# Altium integrated library pca63100.IntLib: 83 symbols (part 1 of 2)
Pins are listed as number, name and electrical type; pins without a type are passive.

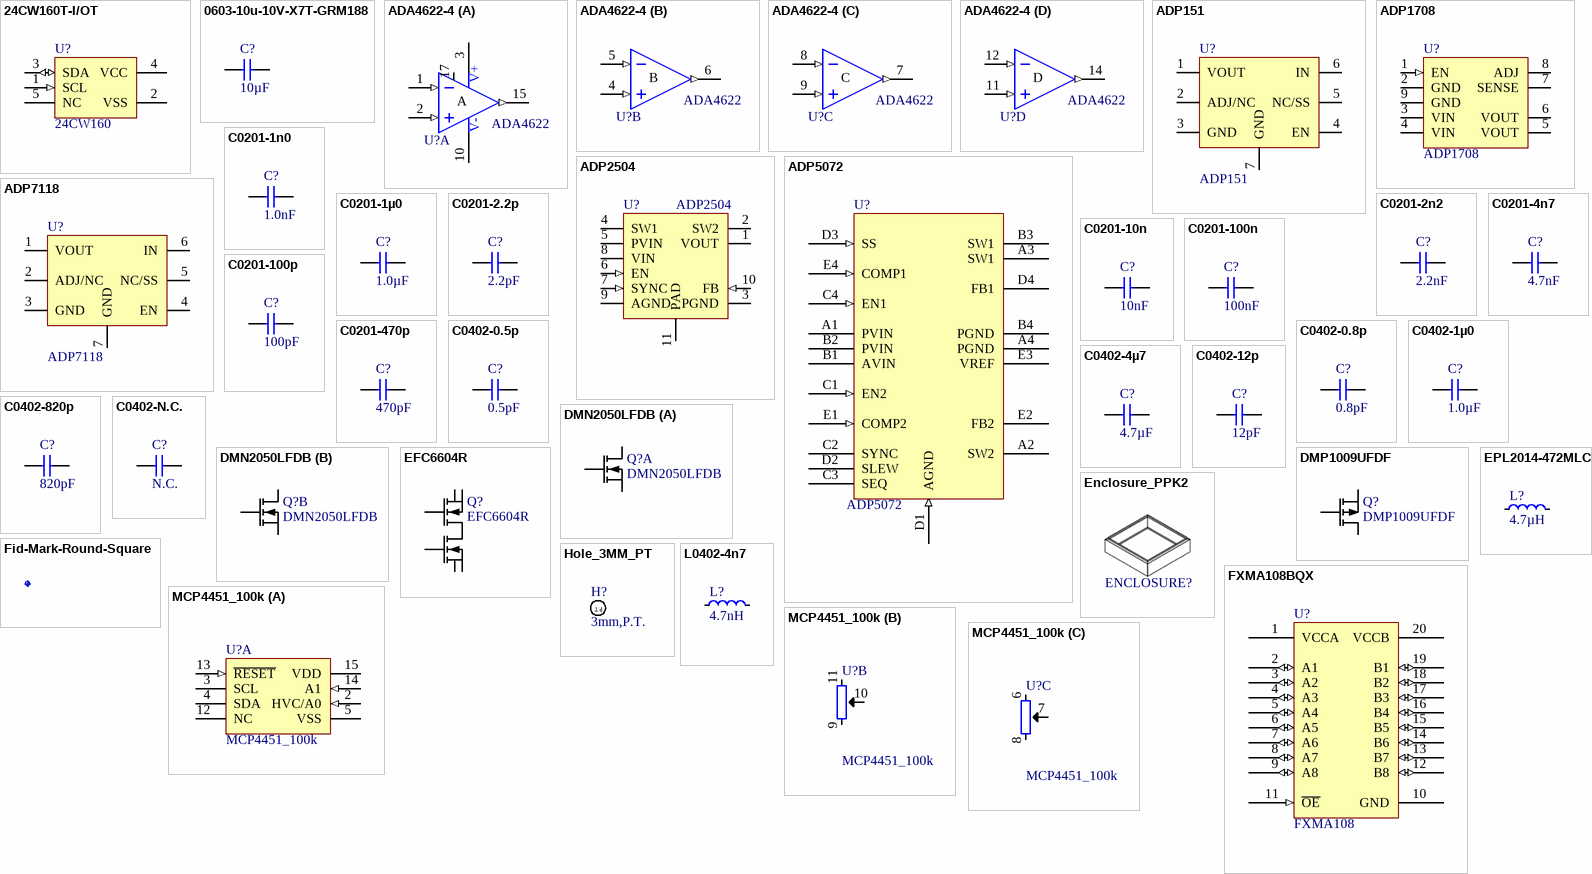
[diagram p0: symbols 24CW160T-I/OT to MCP4451_100k]

## 24CW160T-I/OT
designator U?, comment 24CW160
16 Kbit I2C Serial EEPROM with Software Write Protection, 1.6-5.5 V Supply; Part Number: 24CW160T-I/OT; Manufacturer: Microchip; Part number IPS: 00000004049; Artikkelnr Noca: N.A.; Pad Count: 5; Manufacturer Part Number: 24CW160T-I/OT; Footprint Doc: TSOT23-5; LatestRevisionDate: 2020-01-17; Pin Count: 5; Publisher: Nordic Semiconductor; Published: 2020-01-17; Value: 24CW160; ComponentLink1URL: http://ww1.microchip.com/downloads/en/DeviceDoc/24CW16X-24CW32X-24CW64X-24CW128X-Data-Sheet-20005772B.pdf; ComponentLink1Description: Datasheet; ComponentLink2URL: https://www.digikey.com/product-detail/en/microchip-technology/24CW160T-I-OT/24CW160T-I-OTCT-ND/8594982; ComponentLink2Description: Supplier link; HelpURL: https://www.microchip.com/wwwproducts/en/24CW160; Supplier 1: Digi-Key; Supplier 2: Mouser; Supplier Part Number 1: 24CW160T-I/OTCT-ND; Supplier Part Number 2: 579-24CW160T-I/OT; Component Class: Misc_ICs; PartId: 101900604
footprint SOT-23-5
pins: 1 SCL (in), 2 VSS (power), 3 SDA (io), 4 VCC (power), 5 NC

## 0603-10u-10V-X7T-GRM188
designator C?, comment 10µF
CAP CER 10UF 10V X7T 0603; Part Number: 0603-10u-10V-X7T-GRM188; Manufacturer: Murata; Manufacturer Part Number: GRM188D71A106MA73; Part number IPS: 00000004696; Note: 10VDC; Artikkelnr Noca: N.A; Pad Count: 2; ComponentLink1Description: Datasheet; ComponentLink2Description: Supplier link; HelpURL: https://no.mouser.com/datasheet/2/281/murata_03052018_GRM_Series_1-1310166.pdf; Footprint Doc: 0603; LatestRevisionDate: 2020-10-13; Pin Count: 2; Publisher: Nordic Semiconductor; Published: 2018-09-11; Value: 10µF; Supplier 1: Digi-Key; Supplier Part Number 1: 490-7200-1-ND; Supplier 2: Mouser; Supplier Part Number 2: 81-GRM188D71A106MA3D; Component Class: Capacitors; PartId: 100200414
footprint CAPC1608X06L
pins: 1, 2

## ADA4622-4
designator U?, comment ADA4622
J-FET Amplifier 4 Circuit Rail-to-Rail 16-LFCSP (4x4); Part Number: ADA4622-4; Manufacturer: Analog Devices; Manufacturer Part Number: ADA4622-4ACPZ-RL; Part number IPS: 00000004963; Artikkelnr Noca: N.A.; Pad Count: 17; ComponentLink1URL: https://www.analog.com/media/en/technical-documentation/data-sheets/ada4622-1-4622-2-4622-4.pdf; ComponentLink1Description: Datasheet; ComponentLink2URL: https://www.digikey.no/product-detail/en/analog-devices-inc/ADA4622-4ACPZ-RL/ADA4622-4ACPZ-RL-ND/6490586; ComponentLink2Description: Supplier link; HelpURL: https://www.analog.com/en/products/ada4622-4.html; Footprint Doc: QFN-16; LatestRevisionDate: 2019-06-19; Pin Count: 17; Publisher: Nordic Semiconductor; Published: 2019-06-19; Value: ADA4622; Supplier 1: Digi-Key; Supplier Part Number 1: ADA4622-4ACPZ-R7-ND; Supplier 2: Mouser; Supplier Part Number 2: 584-ADA4622-4ACPZ-R7; Component Class: Misc_ICs; PartId: 101900585
footprint QFN65P400X400X80_HS-17N
part A pins: 1 IN A- (in), 2 IN A+ (in), 3 VDD (power), 10 VSS (power), 13 NIC hidden, 15 OUTA (out), 16 NIC hidden, 17 EPAD (power) "Connect to VDD"
part B pins: 4 IN B+ (in), 5 IN B- (in), 6 OUTB (out)
part C pins: 7 OUTC (out), 8 IN C- (in), 9 IN C+ (in)
part D pins: 11 IN D+ (in), 12 IN D- (in), 14 OUTD (out)
part A text: V+; A; V-
part B text: B
part C text: C
part D text: D

## ADP151
designator U?
Ultralow Noise, 200 mA,CMOS Linear Regulator; Manufacturer: Analog Devices; Manufacturer Part Number: ADP151ACPZ-3.3-R7; Part number IPS: 00000004803; Artikkelnr Noca: N.A.; Pad Count: 7; Part Number: ADP151; ComponentLink1URL: https://www.analog.com/media/en/technical-documentation/data-sheets/ADP151.pdf; ComponentLink1Description: Datasheet; ComponentLink2URL: https://www.digikey.no/product-detail/no/analog-devices-inc/ADP7118ACPZN-R7/ADP7118ACPZN-R7TR-ND/5056887; ComponentLink2Description: Supplier link; HelpURL: https://www.analog.com/en/products/adp151.html; Footprint Doc: UDFN-6; LatestRevisionDate: 2020-02-21; Pin Count: 7; Publisher: Nordic Semiconductor; Published: 2020-02-21; Value: ADP151; Supplier 1: Digi-Key; Supplier Part Number 1: ADP151ACPZ-3.3-R7CT-ND; Supplier 2: Mouser; Supplier Part Number 2: 584-ADP151ACPZ3.3-R7; Component Class: Misc_ICs; PartId: 101900607
footprint SON65P200X60_HS-7N
pins: 1 VOUT (power), 2 ADJ/NC, 3 GND, 4 EN, 5 NC/SS, 6 IN (power), 7 GND (power)

## ADP1708
designator U?
LDO, Adjustable, 1 Output 1A, 8-LFCSP-WD (3x3); Manufacturer: Analog Devices; Manufacturer Part Number: ADP1708ACPZ-R7; Part number IPS: 00000004966; Artikkelnr Noca: N.A.; Pad Count: 9; Part Number: ADP1708; ComponentLink1URL: https://www.analog.com/media/en/technical-documentation/data-sheets/ADP1708.pdf; ComponentLink1Description: Datasheet; ComponentLink2URL: https://www.digikey.no/product-detail/no/analog-devices-inc/ADP1708ACPZ-R7/ADP1708ACPZ-R7CT-ND/2467500; ComponentLink2Description: Supplier link; HelpURL: https://www.analog.com/en/products/adp1708.html; Footprint Doc: UDFN-8; LatestRevisionDate: 2020-02-25; Pin Count: 9; Publisher: Nordic Semiconductor; Published: 2020-02-25; Value: ADP1708; Supplier 1: Digi-Key; Supplier Part Number 1: ADP1708ACPZ-R7CT-ND; Supplier 2: Mouser; Supplier Part Number 2: 584-ADP1708ACPZ-R7; Component Class: Misc_ICs; PartId: 101900609
footprint SON50P300X80_HS-9N
pins: 1 EN (in), 2 GND (power), 3 VIN (power), 4 VIN (power), 5 VOUT (power), 6 VOUT (power), 7 SENSE, 8 ADJ, 9 GND (power)

## ADP2504
designator U?
Buck-Boost Switching Regulator IC Positive Adjustable 2.8V 1 Output 1A; Manufacturer: Analog Devices; Manufacturer Part Number: ADP2504ACPZ-R7; Part number IPS: 00000004965; Artikkelnr Noca: N.A.; Pad Count: 10; Part Number: ADP2504; ComponentLink1URL: https://www.analog.com/media/en/technical-documentation/data-sheets/ADP2503_2504.pdf; ComponentLink1Description: Datasheet; ComponentLink2URL: https://www.digikey.com/product-detail/en/analog-devices-inc/ADP2504ACPZ-R7/ADP2504ACPZ-R7CT-ND/2237823; ComponentLink2Description: Supplier link; HelpURL: https://www.analog.com/en/products/adp2504.html; Footprint Doc: LFCSP-10; LatestRevisionDate: 2019-09-25; Pin Count: 10; Publisher: Nordic Semiconductor; Published: 2019-09-25; Value: ADP2504; Supplier 1: Digi-Key; Supplier Part Number 1: ADP2504ACPZ-R7CT-ND; Supplier 2: Mouser; Supplier Part Number 2: 584-ADP2504ACPZ-R7; Component Class: Misc_ICs; PartId: 101900590
footprint SON50P300X80-HS-11N
pins: 1 VOUT (power), 2 SW2 (power), 3 PGND (power), 4 SW1 (power), 5 PVIN (power), 6 EN (in), 7 SYNC (in), 8 VIN (power), 9 AGND (power), 10 FB (in), 11 PAD (power)

## ADP5072
designator U?
Boost Switching Regulator IC Positive and Negative (Dual Rail) Adjustable 0.8V 2 Output 600mA, 1A 20-UFBGA,; Manufacturer: Analog Devices; Manufacturer Part Number: ADP5072ACBZ-R7; Part number IPS: 00000004804; Artikkelnr Noca: N.A.; Pad Count: 20; Part Number: ADP5072; ComponentLink1URL: https://www.analog.com/media/en/technical-documentation/data-sheets/ADP5072.pdf; ComponentLink1Description: Datasheet; ComponentLink2URL: https://www.digikey.no/product-detail/en/analog-devices-inc/ADP5072ACBZ-R7/ADP5072ACBZ-R7-ND/9990324; ComponentLink2Description: Supplier link; HelpURL: https://www.analog.com/en/products/adp5072.html; Footprint Doc: BGA-20; LatestRevisionDate: 2019-06-20; Pin Count: 20; Publisher: Nordic Semiconductor; Published: 2019-06-20; Value: ADP5072; Supplier 1: Digi-Key; Supplier Part Number 1: ADP5072ACBZ-R7-ND; Supplier 2: Mouser; Supplier Part Number 2: 584-ADP5072ACBZ-R7; Component Class: Misc_ICs; PartId: 101900586
footprint BGA20C40P4X5_161X218X56
pins: A1 PVIN (power), A2 SW2 (power), A3 SW1 (power), A4 PGND (power), B1 AVIN (power), B2 PVIN (power), B3 SW1 (power), B4 PGND (power), C1 EN2 (in), C2 SYNC, C3 SEQ, C4 EN1 (in), D1 AGND (in), D2 SLEW, D3 SS (in), D4 FB1 (power), E1 COMP2 (in), E2 FB2 (power), E3 VREF (power), E4 COMP1 (in)

## ADP7118
designator U?
20 V, 200 mA, Low Noise,CMOS LDO Linear Regulator; Manufacturer: Analog Devices; Manufacturer Part Number: ADP7118ACPZN-R7; Part number IPS: 00000004964; Artikkelnr Noca: N.A.; Pad Count: 7; Part Number: ADP7118; ComponentLink1URL: https://www.analog.com/media/en/technical-documentation/data-sheets/ADP7118.pdf; ComponentLink1Description: Datasheet; ComponentLink2URL: https://www.digikey.no/product-detail/no/analog-devices-inc/ADP151ACPZ-3.3-R7/ADP151ACPZ-3.3-R7CT-ND/7430437; ComponentLink2Description: Supplier link; HelpURL: https://www.analog.com/en/products/adp7118.html; Footprint Doc: UDFN-6; LatestRevisionDate: 2020-02-21; Pin Count: 7; Publisher: Nordic Semiconductor; Published: 2020-02-21; Value: ADP7118; Supplier 1: Digi-Key; Supplier Part Number 1: ADP7118ACPZN-R7TR-ND; Supplier 2: Mouser; Supplier Part Number 2: 584-ADP7118ACPZN-R7; Component Class: Misc_ICs; PartId: 101900608
footprint SON65P200X60_HS-7N
pins: 1 VOUT (power), 2 ADJ/NC, 3 GND, 4 EN, 5 NC/SS, 6 IN (power), 7 GND (power)

## C0201-1n0
designator C?, comment 1.0nF
Capacitor, X7R, ±10%; Part Number: C0201-1n0; Part number IPS: 00000003206; Note: 16V; Artikkelnr Noca: N.A.; Pad Count: 2; ComponentLink1Description: Datasheet; ComponentLink2Description: Supplier link; Footprint Doc: 0201; LatestRevisionDate: 2020-10-13; Pin Count: 2; Publisher: Nordic Semiconductor; Published: 2014-11-13; Value: 1.0nF; Component Class: Capacitors; PartId: 100200056
footprint CAPC0603X03L_C
pins: 1, 2

## C0201-1µ0
designator C?, comment 1.0µF
Capacitor, X5R, ±10%; Part Number: C0201-1µ0; Part number IPS: 00000001723; Note: 10V; Artikkelnr Noca: N.A.; Pad Count: 2; ComponentLink1Description: Datasheet; ComponentLink2Description: Supplier link; Footprint Doc: 0201; LatestRevisionDate: 2016-08-22; Pin Count: 2; Publisher: Nordic Semiconductor; Published: 2009-05-08; Value: 1.0µF; Supplier 1: Digi-Key; Supplier Part Number 1: 1276-6795-1-ND; Component Class: Capacitors; PartId: 100200084
footprint CAPC0603X03L_C
pins: 1, 2

## C0201-2.2p
designator C?, comment 2.2pF
Chip Cap 0201; Part Number: C0201-2.2p; Note: Chip Cap 1%; Artikkelnr Noca: N.A.; Pad Count: 2; ComponentLink1Description: Datasheet; ComponentLink2Description: Supplier link; Footprint Doc: 0201; LatestRevisionDate: 2014-11-13; Pin Count: 2; Publisher: Nordic Semiconductor; Published: 2014-11-13; Value: 2.2pF; Part number IPS: N.A.; Component Class: Capacitors; PartId: 100200020
footprint CAPC0603X03L_C
pins: 1, 2

## C0201-2n2
designator C?, comment 2.2nF
Capacitor, X7R, ±10%, 10V; Part Number: C0201-2n2; Part number IPS: 00000001778; Artikkelnr Noca: N.A.; Pad Count: 2; ComponentLink1Description: Datasheet; ComponentLink2Description: Supplier link; Footprint Doc: 0201; LatestRevisionDate: 2014-11-13; Pin Count: 2; Publisher: Nordic Semiconductor; Published: 2014-11-13; Value: 2.2nF; Note: 10V; Component Class: Capacitors; PartId: 100200060
footprint CAPC0603X03L_C
pins: 1, 2

## C0201-4n7
designator C?, comment 4.7nF
Chip Cap 0201; Part Number: C0201-4n7; Part number IPS: 00000001243; Note: Chip Cap 1%; Artikkelnr Noca: N.A.; Pad Count: 2; LatestRevisionDate: 2020-10-13; Pin Count: 2; Publisher: Nordic Semiconductor; Published: 2014-11-13; Value: 4.7nF; Footprint Doc: 0201; ComponentLink1Description: Datasheet; ComponentLink2Description: Supplier link; Component Class: Capacitors; PartId: 100200063
footprint CAPC0603X03L_C
pins: 1, 2

## C0201-10n
designator C?, comment 10nF
Capacitor, X7R, ±10%; Part Number: C0201-10n; Part number IPS: 00000003480; Note: 10V; Artikkelnr Noca: N.A.; Pad Count: 2; LatestRevisionDate: 2017-11-09; Pin Count: 2; Publisher: Nordic Semiconductor; Published: 2014-11-13; Value: 10nF; Footprint Doc: 0201; ComponentLink1Description: Datasheet; ComponentLink2Description: Supplier link; Component Class: Capacitors; PartId: 100200067
footprint CAPC0603X03L_C
pins: 1, 2

## C0201-100n
designator C?, comment 100nF
Capacitor, X5R, ±10%; Part Number: C0201-100n; Part number IPS: 00000001248, 00000002505; Note: 16V; Artikkelnr Noca: N.A.; Pad Count: 2; Footprint Doc: 0201; LatestRevisionDate: 2017-11-09; Pin Count: 2; Publisher: Nordic Semiconductor; Published: 2014-11-13; Value: 100nF; ComponentLink1Description: Datasheet; ComponentLink2Description: Supplier link; Component Class: Capacitors; PartId: 100200078
footprint CAPC0603X03L_C
pins: 1, 2

## C0201-100p
designator C?, comment 100pF
Capacitor, NP0, ±2%, 25V; Part Number: C0201-100p; Manufacturer: Murata; Manufacturer Part Number: GRM0335C1E101GA01; Part number IPS: 00000007853; Artikkelnr Noca: N.A.; Pad Count: 2; LatestRevisionDate: 2019-04-16; Pin Count: 2; Publisher: Nordic Semiconductor; Published: 2019-04-16; Value: 100pF; Note: 25V; Footprint Doc: 0201; ComponentLink1Description: Datasheet; ComponentLink2Description: Supplier link; Component Class: Capacitors; PartId: 100200044
footprint CAPC0603X03L_C
pins: 1, 2

## C0201-470p
designator C?, comment 470pF
Chip Cap 0201; Part Number: C0201-470p; Part number IPS: 00000005775; Note: Chip Cap 1%; Artikkelnr Noca: N.A.; Pad Count: 2; ComponentLink1Description: Datasheet; ComponentLink2Description: Supplier link; Footprint Doc: 0201; LatestRevisionDate: 2020-10-13; Pin Count: 2; Publisher: Nordic Semiconductor; Published: 2014-11-13; Value: 470pF; Component Class: Capacitors; PartId: 100200052
footprint CAPC0603X03L_C
pins: 1, 2

## C0402-0.5p
designator C?, comment 0.5pF
Capacitor, NP0, ±0.05pF; Part Number: C0402-0.5p; Manufacturer: Murata; Manufacturer Part Number: GJM1555C1HR50WB01; Part number IPS: 00000004293; Note: 50V; Artikkelnr Noca: 20020007; Pad Count: 2; LatestRevisionDate: 2020-10-13; Pin Count: 2; Publisher: Nordic Semiconductor; Published: 2009-05-08; Value: 0.5pF; Footprint Doc: 0402; ComponentLink1Description: Datasheet; ComponentLink2Description: Supplier link; Supplier 1: Digi-Key; Supplier Part Number 1: 490-11250-1-ND; Component Class: Capacitors; PartId: 100200112
footprint CAPC1005X04L
pins: 1, 2

## C0402-0.8p
designator C?, comment 0.8pF
Capacitor, NP0, ±5%; Part Number: C0402-0.8p; Manufacturer: Murata; Manufacturer Part Number: GRM1555C1HR80WA01D; Part number IPS: 00000007782; Note: 50V; Artikkelnr Noca: 20029147; Pad Count: 2; LatestRevisionDate: 2012-11-21; Pin Count: 2; Publisher: Nordic Semiconductor; Published: 2009-05-08; Value: 0.8pF; Footprint Doc: 0402; ComponentLink1Description: Datasheet; ComponentLink1URL: https://www.murata.com/~/media/webrenewal/support/library/catalog/products/capacitor/mlcc/c02e.ashx?la=en-us; ComponentLink2Description: Supplier link; Supplier 1: Digi-Key; Supplier Part Number 1: 490-6270-1-ND; Component Class: Capacitors; PartId: 100200116
footprint CAPC1005X04L
pins: 1, 2

## C0402-1µ0
designator C?, comment 1.0µF
Capacitor, X5R, ±5%, 6.3V; Part Number: C0402-1µ0; Part number IPS: 00000007786, 00000003457; Artikkelnr Noca: 20039235; Pad Count: 2; ComponentLink1Description: Datasheet; ComponentLink2Description: Supplier link; Footprint Doc: 0402; LatestRevisionDate: 2016-08-22; Pin Count: 2; Publisher: Nordic Semiconductor; Published: 2009-05-08; Value: 1.0µF; Note: 6.3V; Supplier 1: Digi-Key; Supplier Part Number 1: 1276-1444-1-ND; Component Class: Capacitors; PartId: 100200190
footprint CAPC1005X04L
pins: 1, 2

## C0402-4µ7
designator C?, comment 4.7µF
Capacitor, X5R, ±20%; Part Number: C0402-4µ7; Part number IPS: 00000001251, 00000007165; Note: 10V; Artikkelnr Noca: 20039482; Pad Count: 2; LatestRevisionDate: 2017-11-09; Pin Count: 2; Publisher: Nordic Semiconductor; Published: 2009-05-08; Value: 4.7µF; Footprint Doc: 0402; ComponentLink1Description: Datasheet; ComponentLink2Description: Supplier link; Supplier 1: Digi-Key; Supplier Part Number 1: 490-13252-1-ND; Component Class: Capacitors; PartId: 100200193
footprint CAPC1005X04L
pins: 1, 2

## C0402-12p
designator C?, comment 12pF
Capacitor, NP0, ±2%; Part Number: C0402-12p; Part number IPS: 00000002398; Note: 50V; Artikkelnr Noca: 20029159; Pad Count: 2; LatestRevisionDate: 2011-05-11; Pin Count: 2; Publisher: Nordic Semiconductor; Published: 2009-05-08; Value: 12pF; Footprint Doc: 0402; ComponentLink1Description: Datasheet; ComponentLink2Description: Supplier link; Component Class: Capacitors; PartId: 100200137
footprint CAPC1005X04L
pins: 1, 2

## C0402-820p
designator C?, comment 820pF
Capacitor, NP0, ±5%; Part Number: C0402-820p; Part number IPS: 00000004365; Note: 50V; Artikkelnr Noca: 20029219; Pad Count: 2; LatestRevisionDate: 2020-10-13; Pin Count: 2; Publisher: Nordic Semiconductor; Published: 2009-05-08; Value: 820pF; Footprint Doc: 0402; ComponentLink1Description: Datasheet; ComponentLink2Description: Supplier link; Component Class: Capacitors; PartId: 100200161
footprint CAPC1005X04L
pins: 1, 2

## C0402-N.C.
designator C?, comment N.C.
Not mounted; Part Number: C0402-N.C.; Note: Chip Cap; Artikkelnr Noca: N.A.; Assembly: Not mounted; Pad Count: 2; Footprint Doc: 0402; LatestRevisionDate: 2009-05-08; Pin Count: 2; Publisher: Nordic Semiconductor; Published: 2009-05-08; Value: N.C.; ComponentLink1Description: Datasheet; ComponentLink2Description: Supplier link; Part number IPS: N.A.; Component Class: Capacitors; PartId: 100200105
footprint CAPC1005X04L_NC
pins: 1, 2

## DMN2050LFDB
designator Q?
Dual N Ch MOFET, 3.3A, 45mOhm @ 5A, 4.5V, 730mW; Manufacturer: Diodes Incorporated; Manufacturer Part Number: DMN2050LFDB-7; Part number IPS: 00000004782; Artikkelnr Noca: N.A.; Pad Count: 6; Part Number: DMN2050LFDB; ComponentLink1URL: https://www.diodes.com/assets/Datasheets/DMN2050LFDB.pdf; ComponentLink1Description: Datasheet; ComponentLink2Description: Supplier link; HelpURL: https://www.diodes.com/assets/Datasheets/DMN2050LFDB.pdf; Footprint Doc: DFN-6; LatestRevisionDate: 2020-04-30; Pin Count: 6; Publisher: Nordic Semiconductor; Published: 2020-04-30; Value: DMN2050LFDB; Supplier 1: Digi-Key; Supplier Part Number 1: DMN2050LFDB-7DICT-ND; Supplier 2: Mouser; Supplier Part Number 2: 621-DMN2050LFDB-7; Component Class: Semiconductors; PartId: 101300176
footprint DFN65P200X60_HS-6N
part A pins: 1 S1, 2 G1, 6 D1
part B pins: 3 D2, 4 S2, 5 G2

## DMP1009UFDF
designator Q?
P Ch MOFET, 11A, 30mOhm max, 2W; Manufacturer: Diodes Incorporated; Part number IPS: 00000004784; Artikkelnr Noca: N.A.; Pad Count: 6; Part Number: DMP1009UFDF; Manufacturer Part Number: DMP1009UFDF; ComponentLink1URL: https://www.diodes.com/assets/Datasheets/DMP1009UFDF.pdf; ComponentLink1Description: Datasheet; ComponentLink2Description: Supplier link; Footprint Doc: UDFN-6; LatestRevisionDate: 2019-02-12; Pin Count: 6; Publisher: Nordic Semiconductor; Published: 2019-02-12; Value: DMP1009UFDF; Supplier 1: Digi-Key; Supplier Part Number 1: DMP1009UFDF-7DICT-ND; Component Class: Semiconductors; PartId: 101300164
footprint UDFN65P200X200X60_HS-6N
pins: 1 G, 2 S, 3 D

## EFC6604R
designator Q?
Dual MOSFET, Dual N Channel, 13 A, 12 V, 0.009 ohm, 4.5 V, 2.5 V; Manufacturer: ON Semiconductor; Manufacturer Part Number: EFC6604R-TR; Part number IPS: 00000004783; Artikkelnr Noca: N.A.; Pad Count: 6; Part Number: EFC6604R; ComponentLink1URL: https://www.onsemi.com/pub/Collateral/EFC6604R-D.PDF; ComponentLink1Description: Datasheet; ComponentLink2URL: https://www.digikey.no/products/en/discrete-semiconductor-products/transistors-fets-mosfets-arrays/289?k=EFC6604; ComponentLink2Description: Supplier link; HelpURL: https://www.onsemi.com/products/discretes-drivers/mosfets/efc6604r; Footprint Doc: WLCSP-6; LatestRevisionDate: 2019-10-01; Pin Count: 6; Publisher: Nordic Semiconductor; Published: 2019-10-01; Value: EFC6604R; Supplier 1: Mouser; Supplier Part Number 1: 863-EFC6604R-TR; Supplier 2: Digi-Key; Supplier Part Number 2: EFC6604R-TR-ND; Component Class: Semiconductors; PartId: 101300168
footprint BGA6C65P2X3_146X191X22
pins: 1 S1, 2 G1, 3 S2, 4 S2, 5 G2, 6 S2

## Enclosure_PPK2
designator ENCLOSURE?, comment Plastic Enclosure  (value not drawn)
PPK2 Moulded plastic casing; Part Number: Enclosure_PPK2; Manufacturer: Proto Labs, Inc.; Manufacturer Part Number: PPK plexi rev 1.2; Part number IPS: 4971; Pad Count: 0; ComponentLink1Description: Datasheet; ComponentLink2Description: Supplier link; HelpURL: https://www.protolabs.com; Footprint Doc: Plastic casing; LatestRevisionDate: 2020-10-01; Publisher: Nordic Semiconductor; Published: 2020-10-01; Value: Plastic Enclosure; Component Class: Mechanical; PartId: 101200001
footprint Enclosure_PPK2

## EPL2014-472MLC
designator L?, comment 4.7µH
Shielded Power Inductor EPL2014 Low DCR Ind 4.7 uH 20 % 650mA; Part Number: EPL2014-472MLC; Manufacturer: Coilcraft; Part number IPS: 00000004697; Artikkelnr Noca: N.A.; Pad Count: 2; Manufacturer Part Number: EPL2014-472MLC; ComponentLink1Description: Datasheet; ComponentLink2Description: Supplier link; HelpURL: https://no.mouser.com/datasheet/2/597/epl2014-270728.pdf; Footprint Doc: IND_EPL2014; LatestRevisionDate: 2020-01-07; Pin Count: 2; Publisher: Nordic Semiconductor; Published: 2019-06-21; Value: 4.7µH; Supplier 1: Mouser; Supplier Part Number 1: 994-EPL2014-472MLB; Component Class: Inductors; PartId: 100300390
footprint IND_EPL2014
pins: 1, 2

## Fid-Mark-Round-Square
designator Fid?, comment Fiducial mark  (value not drawn)  (no BOM)
Part Number: Fid-Mark-Round-Square; Artikkelnr Noca: N.A.; Pad Count: 1; LatestRevisionDate: 2017-01-30; Pin Count: 1; Publisher: Nordic Semiconductor; Published: 2009-12-12; Footprint Doc: Fiducial; Part number IPS: N.A.; ComponentLink1Description: Datasheet; ComponentLink2Description: Supplier link; Component Class: Connectors; PartId: 100500075
footprint Fiducial_Round-Square

## FXMA108BQX
designator U?, comment FXMA108
8-bit bidirectional voltage-level translator with auto-direction sensing; Part Number: FXMA108BQX; Manufacturer: Fairchild Semiconductor; Part number IPS: 00000004806; Note: Translator, Bidirectional; Artikkelnr Noca: N.A.; Pad Count: 20; Manufacturer Part Number: FXMA108BQX; ComponentLink1Description: Datasheet; ComponentLink2Description: Supplier link; HelpURL: http://www.fairchildsemi.com/ds/FX/FXMA108.pdf; Footprint Doc: DQFN-20; LatestRevisionDate: 2014-01-10; Pin Count: 20; Publisher: Nordic Semiconductor; Published: 2014-01-10; Value: FXMA108; Supplier 1: Digi-Key; Supplier Part Number 1: FXMA108BQXFSCT-ND; Supplier 2: Mouser; Supplier Part Number 2: 512-FXMA108BQX; Component Class: Misc_ICs; PartId: 101900233
footprint QFN50P450X250X80_HS-21N
pins: 1 VCCA (power), 2 A1 (io), 3 A2 (io), 4 A3 (io), 5 A4 (io), 6 A5 (io), 7 A6 (io), 8 A7 (io), 9 A8 (io), 10 GND (power), 11 ~{OE} (in), 12 B8 (io), 13 B7 (io), 14 B6 (io), 15 B5 (io), 16 B4 (io), 17 B3 (io), 18 B2 (io), 19 B1 (io), 20 VCCB (power)

## Hole_3MM_PT
designator H?, comment 3mm,P.T.  (no BOM)
Regular Plate Through, 3mm hole; Part Number: Hole_3MM_PT; Manufacturer: Nordic Semiconductor; Artikkelnr Noca: N.A.; Pad Count: 1; Footprint Doc: Hole_3MM_PT; LatestRevisionDate: 2013-05-29; Pin Count: 1; Publisher: Nordic Semiconductor; Published: 2013-05-29; Value: 3mm,P.T.; Note: Regular Plate Through, 3mm hole; Part number IPS: N.A.; ComponentLink1Description: Datasheet; ComponentLink2Description: Supplier link; Component Class: Connectors; PartId: 100500146
footprint HOLE_PT_3MM
pins: 1
text: P.T

## L0402-4n7
designator L?, comment 4.7nH
Inductor, 160mA, ±0.1nH; Part Number: L0402-4n7; Manufacturer: Murata; Manufacturer Part Number: LQP15MN4N7B02D; Part number IPS: 00000004366; Note: High frequency chip inductor ±5%; Artikkelnr Noca: 33029164; Pad Count: 2; LatestRevisionDate: 2012-09-19; Pin Count: 2; Publisher: Nordic Semiconductor; Published: 2009-05-08; Value: 4.7nH; Footprint Doc: 0402; ComponentLink1Description: Datasheet; ComponentLink2Description: Supplier link; HelpURL: http://search.murata.co.jp/Ceramy/image/img/PDF/ENG/L0075S0084LQP15M.pdf; Supplier 1: Digi-Key; Supplier Part Number 1: 490-1132-1-ND; Component Class: Inductors; PartId: 100300050
footprint INDC1005X04L
pins: 1, 2

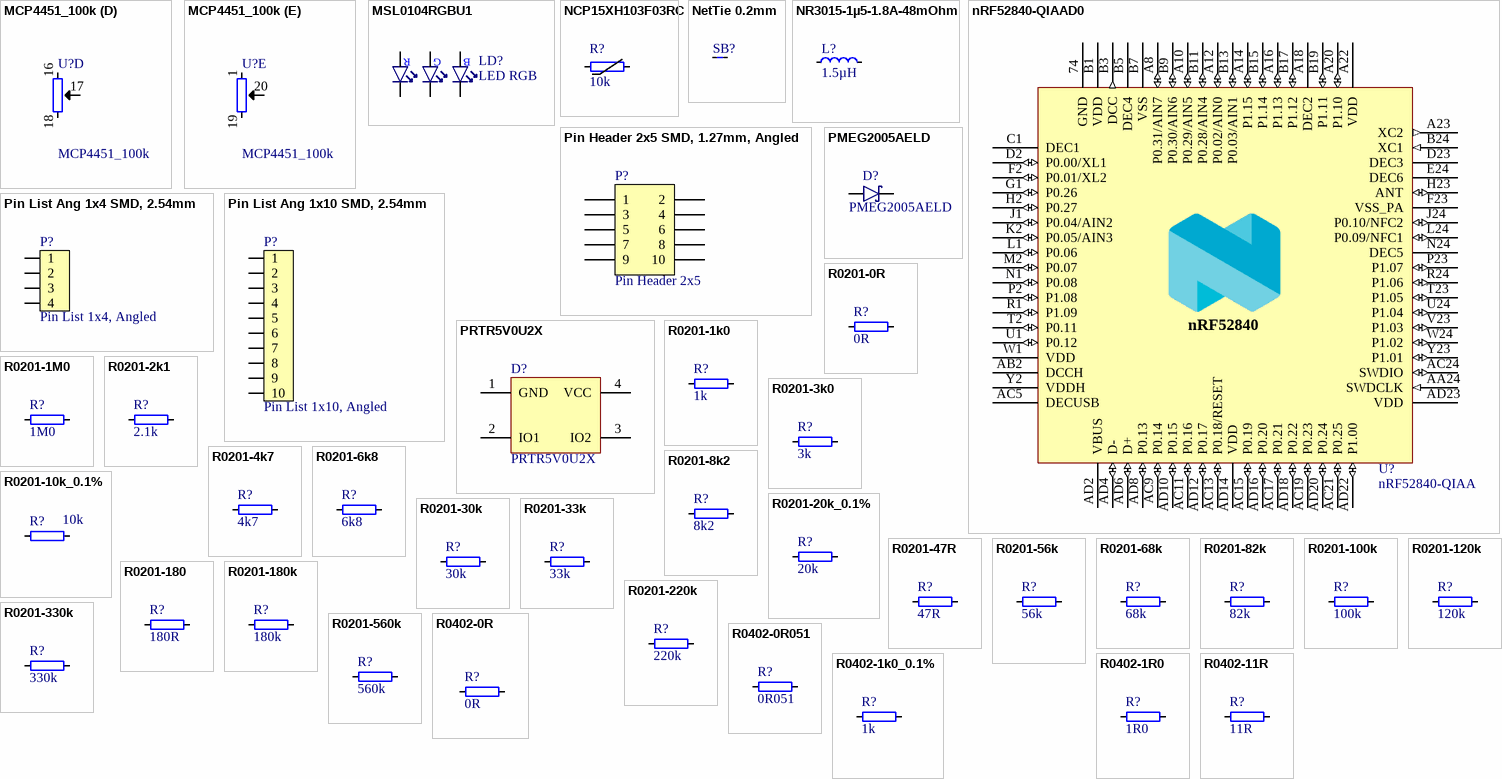
[diagram p1: symbols MCP4451_100k to R0402-11R]

## MCP4451_100k
designator U?
Quad Digital Potentiometer, 100k, 257 taps, I2C interface, Volatile Memory, 1.8-5.5V; Manufacturer: Microchip Technology; Manufacturer Part Number: MCP4451-104E/ML; Part number IPS: 00000004805; Artikkelnr Noca: 15070064; Pad Count: 20; Part Number: MCP4451_100k; Footprint Doc: QFN-20; LatestRevisionDate: 2016-06-02; Pin Count: 20; Publisher: Nordic Semiconductor; Published: 2016-05-09; Value: MCP4451_100k; ComponentLink1Description: Datasheet; ComponentLink2Description: Supplier link; HelpURL: http://ww1.microchip.com/downloads/en/DeviceDoc/MCP4451.pdf; Supplier 1: Digi-Key; Supplier 2: Mouser; Supplier Part Number 1: MCP4451-104E/ML-ND; Supplier Part Number 2: 579-MCP4451-104E/ML; Component Class: Misc_ICs; PartId: 101900403
footprint QFN50P400X400X80_HS-21N
part A pins: 2 HVC/A0 (in), 3 SCL, 4 SDA, 5 VSS (power), 12 NC, 13 ~{RESET} (in), 14 A1 (in), 15 VDD (power) "VDD 1.65V - 5.5V", 21 VSS (power) hidden to GND
part B pins: 9 P0A, 10 P0W (power), 11 P0B
part C pins: 6 P1B, 7 P1W (power), 8 P1A
part D pins: 16 P2B, 17 P2W (power), 18 P2A
part E pins: 1 P3B, 19 P3A, 20 P3W (power)

## MSL0104RGBU1
designator LD?, comment LED RGB
High brightness, side view RGB LED; Part Number: MSL0104RGBU1; Manufacturer: ROHM; Part number IPS: 00000007799; Artikkelnr Noca: N.A.; Pad Count: 7; Manufacturer Part Number: MSL0104RGBU1; LatestRevisionDate: 2016-09-21; Pin Count: 7; Publisher: Nordic Semiconductor; Published: 2016-09-21; Value: LED RGB; Footprint Doc: 6922; Supplier 1: Digi-Key; Supplier Part Number 1: MSL0104RGBU1CT-ND; Supplier 2: Mouser; Supplier Part Number 2: 755-MSL0104RGBU1; ComponentLink1Description: Datasheet; ComponentLink2Description: Supplier link; HelpURL: http://www.rohm.com/web/eu/datasheet/MSL0104RGBU; Component Class: Optoelectronics; PartId: 101400028
footprint MSL0104
pins: 1 A_RED, 2 A_GREEN, 3 C_GREEN, 4 C_RED, 5 C_BLUE, 6 A_BLUE
text: R; G; B

## NCP15XH103F03RC
designator R?, comment 10k
THERMISTOR 10K OHM NTC 0402 SMD; Part Number: NCP15XH103F03RC; Manufacturer: Murata; Part number IPS: 00000007808; Note: Chip Res 1%; Artikkelnr Noca: N.A.; Pad Count: 2; Manufacturer Part Number: NCP15XH103F03RC; ComponentLink1Description: Datasheet; ComponentLink2Description: Supplier link; Footprint Doc: 0402; LatestRevisionDate: 2015-03-25; Pin Count: 2; Publisher: Nordic Semiconductor; Published: 2015-03-25; Value: 10k; Supplier 1: Digi-Key; Supplier Part Number 1: 490-4801-1-ND; Supplier 2: Farnell; Supplier Part Number 2: 245-6121; Component Class: Resistors; PartId: 100100507
footprint RESC1005X04L
pins: 1, 2

## NetTie 0.2mm
designator SB?, comment NetTie_200um  (value not drawn)  (net tie, no BOM)
Net Tie; Part Number: NetTie 0.2mm; Artikkelnr Noca: N.A.; Pad Count: 2; ComponentLink1Description: Datasheet; ComponentLink2Description: Supplier link; Footprint Doc: NetTie; LatestRevisionDate: 2019-10-07; Pin Count: 2; Publisher: Nordic Semiconductor; Published: 2019-10-07; Value: NetTie_200um; Part number IPS: N.A.; Component Class: Connectors; PartId: 100500654
footprint NetTie_200um
pins: 1, 2

## NR3015-1µ5-1.8A-48mOhm
designator L?, comment 1.5µH
Ferrite Inductor, Shielded, 1,8A, 48mOhm; Part Number: NR3015-1µ5-1.8A-48mOhm; Manufacturer: Taiyo Yuden; Manufacturer Part Number: NR3015T1R5N; Part number IPS: 00000004698; Artikkelnr Noca: N.A.; Pad Count: 2; ComponentLink1Description: Datasheet; ComponentLink2Description: Supplier link; HelpURL: https://ds.yuden.co.jp/TYCOMPAS/ut/specSheet?pn=NR3015T1R5N; Footprint Doc: 1212; LatestRevisionDate: 2019-10-01; Pin Count: 2; Publisher: Nordic Semiconductor; Published: 2019-10-01; Value: 1.5µH; Supplier 1: Digi-Key; Supplier Part Number 1: 587-2617-1-ND; Supplier 2: Farnell; Supplier Part Number 2: 208-4899; Component Class: Inductors; PartId: 100300391
footprint TY-NR3015
pins: 1, 2

## nRF52840-QIAAD0
designator U?, comment nRF52840-QIAA
Multi-protocol Bluetooth Low Energy, IEEE 802.15.4, ANT and 2.4GHz proprietary system-on-chip; Part Number: nRF52840-QIAAD0; Manufacturer: Nordic Semiconductor; Part number IPS: 80000001648; Artikkelnr Noca: N.A.; Pad Count: 73; LatestRevisionDate: 2018-12-04; Pin Count: 73; Publisher: Nordic Semiconductor; Published: 2018-12-04; Value: nRF52840-QIAA; Footprint Doc: AQFN-73; Manufacturer Part Number: nRF52840-QIAAD0; ComponentLink1Description: Datasheet; ComponentLink2Description: Supplier link; Supplier 1: Nordic Semiconductor; Supplier Part Number 1: nRF52840-QIAAD0; Component Class: nRF_Devices; PartId: 102000149
footprint AQFN50P700X700X85_HS-74N
pins: 74 GND (power), A8 P0.31/AIN7 (io), A10 P0.29/AIN5 (io), A12 P0.02/AIN0 (io), A14 P1.15 (io), A16 P1.13 (io), A18 DEC2 (power), A20 P1.10 (io), A22 VDD (power), A23 XC2 (out), AA24 SWDCLK (in), AB2 DCCH (power), AC5 DECUSB (power), AC9 P0.14 (io), AC11 P0.16 (io), AC13 P0.18/RESET (io), AC15 P0.19 (io), AC17 P0.21 (io), AC19 P0.23 (io), AC21 P0.25 (io), AC24 SWDIO (io), AD2 VBUS (power), AD4 D- (io), AD6 D+ (io), AD8 P0.13 (io), AD10 P0.15 (io), AD12 P0.17 (io), AD14 VDD (power), AD16 P0.20 (io), AD18 P0.22 (io), AD20 P0.24 (io), AD22 P1.00 (io), AD23 VDD (power), B1 VDD (power), B3 DCC (out), B5 DEC4 (power), B7 VSS (power), B9 P0.30/AIN6 (io), B11 P0.28/AIN4 (io), B13 P0.03/AIN1 (io), B15 P1.14 (io), B17 P1.12 (io), B19 P1.11 (io), B24 XC1 (in), C1 DEC1 (power), D2 P0.00/XL1 (io), D23 DEC3 (power), E24 DEC6 (power), F2 P0.01/XL2 (io), F23 VSS_PA (power), G1 P0.26 (io), H2 P0.27 (io), H23 ANT (io), J1 P0.04/AIN2 (io), J24 P0.10/NFC2 (io), K2 P0.05/AIN3 (io), L1 P0.06 (io), L24 P0.09/NFC1 (io), M2 P0.07 (io), N1 P0.08 (io), N24 DEC5 (power), P2 P1.08 (io), P23 P1.07 (io), R1 P1.09 (io), R24 P1.06 (io), T2 P0.11 (io), T23 P1.05 (io), U1 P0.12 (io), U24 P1.04 (io), V23 P1.03 (io), W1 VDD (power), W24 P1.02 (io), Y2 VDDH (power), Y23 P1.01 (io)
text: nRF52840

## Pin Header 2x5 SMD, 1.27mm, Angled
designator P?, comment Pin Header 2x5
Pin Header 2x5, 1.27mm (50mil); Part Number: Pin Header 2x5 SMD, 1.27mm, Angled; Manufacturer: W-CON; Manufacturer Part Number: 1325B-1205S0Z080CR02; Part number IPS: 00000007800; Artikkelnr Noca: N.A.; Pad Count: 10; LatestRevisionDate: 2019-11-20; Pin Count: 10; Publisher: Nordic Semiconductor; Published: 2014-01-22; Value: Pin Header 2x5; Footprint Doc: HDR_2x5-SMD-1.27mm-ANG; ComponentLink1Description: Datasheet; ComponentLink2Description: Supplier link; HelpURL: \\hizz\pro\app9717\Datasheet\connectors\W-CON\1325B-12XXXXZXXXCXXX.pdf; Supplier 1: Cabcon; Supplier Part Number 1: 1325B-1205S0Z080CR02; Supplier 2: Samtec; Supplier Part Number 2: FTSH-105-01-L-DH-A-C-TR; Component Class: Connectors; PartId: 100500257
footprint HDR_2x5-SMD-1.27mm-ANG
pins: 1, 2, 3, 4, 5, 6, 7, 8, 9, 10

## Pin List Ang 1x4 SMD, 2.54mm
designator P?, comment Pin List 1x4, Angled
Pin List 1x4, 2.54mm (100mil), Right Angled, SMD; Part Number: Pin List Ang 1x4 SMD, 2.54mm; Part number IPS: 00000004780; Artikkelnr Noca: N.A.; Pad Count: 4; Footprint Doc: LIST_ANG_1x4-SMD-2.54MM; LatestRevisionDate: 2020-04-29; Pin Count: 4; Publisher: Nordic Semiconductor; Published: 2015-01-23; Value: Pin List 1x4, Angled; ComponentLink1Description: Datasheet; ComponentLink2Description: Supplier link; Supplier 1: Cabcon; Supplier Part Number 1: 1125B-1104S0Z135CR02; Supplier 2: Samtec; Supplier Part Number 2: TSM-104-01-L-SH-A; Component Class: Connectors; PartId: 100500358
footprint LIST_ANG_1x4-SMD-2.54MM
pins: 1, 2, 3, 4

## Pin List Ang 1x10 SMD, 2.54mm
designator P?, comment Pin List 1x10, Angled
Pin List 1x10, 2.54mm (100mil), Right Angled, SMD; Part Number: Pin List Ang 1x10 SMD, 2.54mm; Part number IPS: 00000004781; Artikkelnr Noca: N.A.; Pad Count: 10; LatestRevisionDate: 2020-04-29; Pin Count: 10; Publisher: Nordic Semiconductor; Published: 2015-01-23; Value: Pin List 1x10, Angled; Footprint Doc: LIST_ANG_1x10-SMD-2.54MM; ComponentLink1Description: Datasheet; ComponentLink2Description: Supplier link; Supplier 1: Cabcon; Supplier Part Number 1: 1125B-1110S0Z135CR02; Supplier 2: Samtec; Supplier Part Number 2: TSM-110-01-L-SH-A; Component Class: Connectors; PartId: 100500371
footprint LIST_ANG_1x10-SMD-2.54MM
pins: 1, 2, 3, 4, 5, 6, 7, 8, 9, 10

## PMEG2005AELD
designator D?
DIODE SCHOTTKY 20V 0.5A DFN1006D-2/SOD882D; Manufacturer: NXP; Manufacturer Part Number: PMEG2005AELD, 315; Part number IPS: 00000004695; Artikkelnr Noca: N.A.; Pad Count: 2; Part Number: PMEG2005AELD; ComponentLink1URL: https://assets.nexperia.com/documents/data-sheet/PMEG2005AELD.pdf; ComponentLink1Description: Datasheet; ComponentLink2URL: https://no.mouser.com/ProductDetail/Nexperia/PMEG2005AELD315?qs=%2Fha2pyFadujeRJ0LUdYAUYd%2FhKYkfcTYConG%2FJJ6i55M7Nxw9Mi4%2Fw%3D%3D; ComponentLink2Description: Supplier link; HelpURL: https://www.nexperia.com/products/diodes/schottky-diodes-and-rectifiers/schottky-diodes-and-rectifiers-if-1-a/PMEG2005AELD.html; Footprint Doc: DFN1006D-2; LatestRevisionDate: 2019-10-02; Pin Count: 2; Publisher: Nordic Semiconductor; Published: 2019-10-02; Value: PMEG2005AELD; Supplier 1: Farnell; Supplier Part Number 1: 197-2709; Supplier 2: Mouser; Supplier Part Number 2: 771-PMEG2005AELD315; Component Class: Semiconductors; PartId: 101300169
footprint DFN1006D-2
pins: 1 C, 2 A

## PRTR5V0U2X
designator D?
Ultra low capacitance double rail-to-rail ESD protection diode; Manufacturer: NXP; Part number IPS: 00000009951; Artikkelnr Noca: 10069015; Pad Count: 4; Part Number: PRTR5V0U2X; Manufacturer Part Number: PRTR5V0U2X; LatestRevisionDate: 2017-11-09; Publisher: Nordic Semiconductor; Published: 2012-06-11; Value: PRTR5V0U2X; Footprint Doc: SOT-143B; Pin Count: 4; ComponentLink1Description: Datasheet; ComponentLink2Description: Supplier link; HelpURL: http://www.farnell.com/datasheets/109718.pdf; Supplier 1: Digi-Key; Supplier Part Number 1: 568-4140-1-ND; Supplier 2: Farnell; Supplier Part Number 2: 152-4157; Component Class: Semiconductors; PartId: 101300082
footprint SOT190P230X110-4L
pins: 1 GND, 2 IO1, 3 IO2, 4 VCC

## R0201-0R
designator R?, comment 0R
Resistor, ±5%, 0.05W; Part Number: R0201-0R; Part number IPS: 00000003245; Note: Chip Res 5%; Artikkelnr Noca: N.A.; Pad Count: 2; LatestRevisionDate: 2017-11-09; Pin Count: 2; Publisher: Nordic Semiconductor; Published: 2014-11-13; Value: 0R; Footprint Doc: 0201; ComponentLink1Description: Datasheet; ComponentLink2Description: Supplier link; Component Class: Resistors; PartId: 100100001
footprint RESC0603X03L_C
pins: 1, 2

## R0201-1k0
designator R?, comment 1k
Resistor, ±1%, 0.05W; Part Number: R0201-1k0; Part number IPS: 00000005786; Note: Chip Res 1%; Artikkelnr Noca: N.A.; Pad Count: 2; ComponentLink1Description: Datasheet; ComponentLink2Description: Supplier link; Footprint Doc: 0201; LatestRevisionDate: 2014-11-13; Publisher: Nordic Semiconductor; Published: 2014-11-13; Value: 1k; Component Class: Resistors; PartId: 100100043
footprint RESC0603X03L_C
pins: 1, 2

## R0201-1M0
designator R?, comment 1M0
Resistor, ±1%, 0.05W; Part Number: R0201-1M0; Part number IPS: 00000001418; Note: Chip Res 1%; Artikkelnr Noca: N.A.; Pad Count: 2; Footprint Doc: 0201; LatestRevisionDate: 2014-11-13; Pin Count: 2; Publisher: Nordic Semiconductor; Published: 2014-11-13; Value: 1M0; ComponentLink1Description: Datasheet; ComponentLink2Description: Supplier link; Component Class: Resistors; PartId: 100100093
footprint RESC0603X03L_C
pins: 1, 2

## R0201-2k1
designator R?, comment 2.1k
RES SMD 2.1K OHM 1% 1/20W 0201; Part Number: R0201-2k1; Manufacturer: Panasonic; Manufacturer Part Number: ERJ-1GEF2101C; Part number IPS: 00000004787; Note: Chip Res 1%; Artikkelnr Noca: N.A.; Pad Count: 2; ComponentLink1Description: Datasheet; ComponentLink2Description: Supplier link; HelpURL: http://media.digikey.com/pdf/Data%20Sheets/Panasonic%20Resistors%20Thermistors%20PDFs/ERJ_G,R,E_Rev08.pdf; Footprint Doc: 0201; LatestRevisionDate: 2017-02-13; Pin Count: 2; Publisher: Nordic Semiconductor; Published: 2017-02-13; Value: 2.1k; Supplier 1: Digi-Key; Supplier Part Number 1: P2.10KABCT-ND; Component Class: Resistors; PartId: 100100573
footprint RESC0603X03L_C
pins: 1, 2

## R0201-3k0
designator R?, comment 3k
Resistor, ±1%, 0.05W; Part Number: R0201-3k0; Part number IPS: 00000001688; Note: Chip Res 1%; Artikkelnr Noca: N.A.; Pad Count: 2; ComponentLink1Description: Datasheet; ComponentLink2Description: Supplier link; Footprint Doc: 0201; LatestRevisionDate: 2014-11-13; Pin Count: 2; Publisher: Nordic Semiconductor; Published: 2014-11-13; Value: 3k; Component Class: Resistors; PartId: 100100056
footprint RESC0603X03L_C
pins: 1, 2

## R0201-4k7
designator R?, comment 4k7
Resistor, ±1%, 0.05W; Part Number: R0201-4k7; Part number IPS: 00000001706; Note: Chip Res 1%; Artikkelnr Noca: N.A.; Pad Count: 2; ComponentLink1Description: Datasheet; ComponentLink2Description: Supplier link; Footprint Doc: 0201; LatestRevisionDate: 2014-11-13; Pin Count: 2; Publisher: Nordic Semiconductor; Published: 2014-11-13; Value: 4k7; Component Class: Resistors; PartId: 100100061
footprint RESC0603X03L_C
pins: 1, 2

## R0201-6k8
designator R?, comment 6k8
Resistor, ±1%, 0.05W; Part Number: R0201-6k8; Part number IPS: 00000001705; Note: Chip Res 1%; Artikkelnr Noca: N.A.; Pad Count: 2; ComponentLink1Description: Datasheet; ComponentLink2Description: Supplier link; Footprint Doc: 0201; LatestRevisionDate: 2014-11-13; Pin Count: 2; Publisher: Nordic Semiconductor; Published: 2014-11-13; Value: 6k8; Component Class: Resistors; PartId: 100100063
footprint RESC0603X03L_C
pins: 1, 2

## R0201-8k2
designator R?, comment 8k2
Resistor, ±1%, 0.05W; Part Number: R0201-8k2; Part number IPS: 00000004788; Note: Chip Res 1%; Artikkelnr Noca: N.A.; Pad Count: 2; ComponentLink1Description: Datasheet; ComponentLink2Description: Supplier link; Footprint Doc: 0201; LatestRevisionDate: 2014-11-13; Pin Count: 2; Publisher: Nordic Semiconductor; Published: 2014-11-13; Value: 8k2; Component Class: Resistors; PartId: 100100064
footprint RESC0603X03L_C
pins: 1, 2

## R0201-10k_0.1%
designator R?, comment 10k
Resistor, ±0.1%, 0.031W; Part Number: R0201-10k_0.1%; Part number IPS: 00000004786; Note: Chip Res 0.1%; Artikkelnr Noca: N.A.; Pad Count: 2; ComponentLink1Description: Datasheet; ComponentLink2Description: Supplier link; Footprint Doc: 0201; LatestRevisionDate: 2019-10-07; Pin Count: 2; Publisher: Nordic Semiconductor; Published: 2019-10-07; Value: 10k; Component Class: Resistors; PartId: 100100597
footprint RESC0603X03L_C
pins: 1, 2

## R0201-20k_0.1%
designator R?, comment 20k
Resistor, ±0.1%, 0.031W; Part Number: R0201-20k_0.1%; Part number IPS: 00000004785; Note: Chip Res 0.1%; Artikkelnr Noca: N.A.; Pad Count: 2; ComponentLink1Description: Datasheet; ComponentLink2Description: Supplier link; Footprint Doc: 0201; LatestRevisionDate: 2019-10-07; Pin Count: 2; Publisher: Nordic Semiconductor; Published: 2019-10-07; Value: 20k; Component Class: Resistors; PartId: 100100598
footprint RESC0603X03L_C
pins: 1, 2

## R0201-30k
designator R?, comment 30k
Resistor, ±1%, 0.05W; Part Number: R0201-30k; Part number IPS: 00000004318; Note: Chip Res 1%; Artikkelnr Noca: N.A.; Pad Count: 2; ComponentLink1Description: Datasheet; ComponentLink2Description: Supplier link; Footprint Doc: 0201; LatestRevisionDate: 2016-04-20; Pin Count: 2; Publisher: Nordic Semiconductor; Published: 2016-04-20; Value: 30k; Component Class: Resistors; PartId: 100100564
footprint RESC0603X03L_C
pins: 1, 2

## R0201-33k
designator R?, comment 33k
Resistor, ±1%, 0.05W; Part Number: R0201-33k; Part number IPS: 00000001708; Note: Chip Res 1%; Artikkelnr Noca: N.A.; Pad Count: 2; LatestRevisionDate: 2014-11-13; Pin Count: 2; Publisher: Nordic Semiconductor; Published: 2014-11-13; Value: 33k; Footprint Doc: 0201; ComponentLink1Description: Datasheet; ComponentLink2Description: Supplier link; Component Class: Resistors; PartId: 100100073
footprint RESC0603X03L_C
pins: 1, 2

## R0201-47R
designator R?, comment 47R
Resistor, ±1%, 0.05W; Part Number: R0201-47R; Part number IPS: 00000004794; Note: Chip Res 1%; Artikkelnr Noca: N.A.; Pad Count: 2; ComponentLink1Description: Datasheet; ComponentLink2Description: Supplier link; Footprint Doc: 0201; LatestRevisionDate: 2014-11-13; Pin Count: 2; Publisher: Nordic Semiconductor; Published: 2014-11-13; Value: 47R; Component Class: Resistors; PartId: 100100022
footprint RESC0603X03L_C
pins: 1, 2

## R0201-56k
designator R?, comment 56k
Resistor, ±1%, 0.05W; Part Number: R0201-56k; Part number IPS: 00000007882; Note: Chip Res 1%; Artikkelnr Noca: N.A.; Pad Count: 2; ComponentLink1Description: Datasheet; ComponentLink2Description: Supplier link; Footprint Doc: 0201; LatestRevisionDate: 2014-11-13; Pin Count: 2; Publisher: Nordic Semiconductor; Published: 2014-11-13; Value: 56k; Component Class: Resistors; PartId: 100100077
footprint RESC0603X03L_C
pins: 1, 2

## R0201-68k
designator R?, comment 68k
Resistor, ±1%, 0.05W; Part Number: R0201-68k; Part number IPS: 00000004800; Note: Chip Res 1%; Artikkelnr Noca: N.A.; Pad Count: 2; ComponentLink1Description: Datasheet; ComponentLink2Description: Supplier link; Footprint Doc: 0201; LatestRevisionDate: 2014-11-13; Pin Count: 2; Publisher: Nordic Semiconductor; Published: 2014-11-13; Value: 68k; Component Class: Resistors; PartId: 100100078
footprint RESC0603X03L_C
pins: 1, 2

## R0201-82k
designator R?, comment 82k
Resistor, ±1%, 0.05W; Part Number: R0201-82k; Part number IPS: 00000004801; Note: Chip Res 1%; Artikkelnr Noca: N.A.; Pad Count: 2; LatestRevisionDate: 2014-11-13; Pin Count: 2; Publisher: Nordic Semiconductor; Published: 2014-11-13; Value: 82k; Footprint Doc: 0201; ComponentLink1Description: Datasheet; ComponentLink2Description: Supplier link; Component Class: Resistors; PartId: 100100079
footprint RESC0603X03L_C
pins: 1, 2

## R0201-100k
designator R?, comment 100k
Resistor, ±1%, 0.05W; Part Number: R0201-100k; Part number IPS: 00000001419; Note: Chip Res 1%; Artikkelnr Noca: N.A.; Pad Count: 2; Footprint Doc: 0201; LatestRevisionDate: 2014-11-13; Pin Count: 2; Publisher: Nordic Semiconductor; Published: 2014-11-13; Value: 100k; ComponentLink1Description: Datasheet; ComponentLink2Description: Supplier link; Component Class: Resistors; PartId: 100100080
footprint RESC0603X03L_C
pins: 1, 2

## R0201-120k
designator R?, comment 120k
Resistor, ±1%, 0.05W; Part Number: R0201-120k; Part number IPS: 00000001425; Note: Chip Res 1%; Artikkelnr Noca: N.A.; Pad Count: 2; ComponentLink1Description: Datasheet; ComponentLink2Description: Supplier link; Footprint Doc: 0201; LatestRevisionDate: 2014-11-13; Pin Count: 2; Publisher: Nordic Semiconductor; Published: 2014-11-13; Value: 120k; Component Class: Resistors; PartId: 100100081
footprint RESC0603X03L_C
pins: 1, 2

## R0201-180
designator R?, comment 180R
Resistor, ±1%, 0.05W; Part Number: R0201-180; Part number IPS: 00000005783; Note: Chip Res 1%; Artikkelnr Noca: N.A.; Pad Count: 2; LatestRevisionDate: 2014-11-13; Pin Count: 2; Publisher: Nordic Semiconductor; Published: 2014-11-13; Value: 180R; Footprint Doc: 0201; ComponentLink1Description: Datasheet; ComponentLink2Description: Supplier link; Component Class: Resistors; PartId: 100100030
footprint RESC0603X03L_C
pins: 1, 2

## R0201-180k
designator R?, comment 180k
Resistor, ±1%, 0.05W; Part Number: R0201-180k; Part number IPS: 00000004797; Note: Chip Res 1%; Artikkelnr Noca: N.A.; Pad Count: 2; ComponentLink1Description: Datasheet; ComponentLink2Description: Supplier link; Footprint Doc: 0201; LatestRevisionDate: 2014-11-13; Pin Count: 2; Publisher: Nordic Semiconductor; Published: 2014-11-13; Value: 180k; Component Class: Resistors; PartId: 100100083
footprint RESC0603X03L_C
pins: 1, 2

## R0201-220k
designator R?, comment 220k
Resistor, ±1%, 0.05W; Part Number: R0201-220k; Part number IPS: 00000004789; Note: Chip Res 1%; Artikkelnr Noca: N.A.; Pad Count: 2; LatestRevisionDate: 2014-11-13; Pin Count: 2; Publisher: Nordic Semiconductor; Published: 2014-11-13; Value: 220k; Footprint Doc: 0201; ComponentLink1Description: Datasheet; ComponentLink2Description: Supplier link; Component Class: Resistors; PartId: 100100084
footprint RESC0603X03L_C
pins: 1, 2

## R0201-330k
designator R?, comment 330k
Resistor, ±1%, 0.05W; Part Number: R0201-330k; Part number IPS: 00000001424; Note: Chip Res 1%; Artikkelnr Noca: N.A.; Pad Count: 2; ComponentLink1Description: Datasheet; ComponentLink2Description: Supplier link; Footprint Doc: 0201; LatestRevisionDate: 2014-11-13; Pin Count: 2; Publisher: Nordic Semiconductor; Published: 2014-11-13; Value: 330k; Component Class: Resistors; PartId: 100100087
footprint RESC0603X03L_C
pins: 1, 2

## R0201-560k
designator R?, comment 560k
Resistor, ±1%, 0.05W; Part Number: R0201-560k; Part number IPS: 00000004799; Note: Chip Res 1%; Artikkelnr Noca: N.A.; Pad Count: 2; ComponentLink1Description: Datasheet; ComponentLink2Description: Supplier link; Footprint Doc: 0201; LatestRevisionDate: 2014-11-13; Pin Count: 2; Publisher: Nordic Semiconductor; Published: 2014-11-13; Value: 560k; Component Class: Resistors; PartId: 100100090
footprint RESC0603X03L_C
pins: 1, 2

## R0402-0R
designator R?, comment 0R
Resistor, ±5%, 0.063W; Part Number: R0402-0R; Part number IPS: 00000007128; Note: Chip Res 5%; Artikkelnr Noca: 27049000; Pad Count: 2; LatestRevisionDate: 2009-11-23; Pin Count: 2; Publisher: Nordic Semiconductor; Published: 2009-05-08; Value: 0R; Footprint Doc: 0402; ComponentLink1Description: Datasheet; ComponentLink2Description: Supplier link; Supplier 1: Farnell; Supplier Part Number 1: 146-9661; Component Class: Resistors; PartId: 100100109
footprint RESC1005X04L
pins: 1, 2

## R0402-0R051
designator R?, comment 0R051
RES SMD 0.051 OHM 1% 1/4W 0402; Part Number: R0402-0R051; Manufacturer: Panasonic; Manufacturer Part Number: ERJ-2BWFR051X; Part number IPS: 00000004796; Note: Chip Res 1%; Artikkelnr Noca: N.A.; Pad Count: 2; ComponentLink1Description: Datasheet; ComponentLink2Description: Supplier link; Footprint Doc: 0402; LatestRevisionDate: 2009-04-15; Pin Count: 2; Publisher: Nordic Semiconductor; Published: 2009-04-15; Value: 0R051; Supplier 1: Digi-Key; Supplier Part Number 1: P.051ATCT-ND; Supplier 2: Mouser; Supplier Part Number 2: 667-ERJ-2BWFR051X; Component Class: Resistors; PartId: 100100110
footprint RESC1005X04L
pins: 1, 2

## R0402-1k0_0.1%
designator R?, comment 1k
Resistor, ±0.1%, 0.063W; Part Number: R0402-1k0_0.1%; Part number IPS: 00000004790; Note: Chip Res 0.1%; Artikkelnr Noca: 27469397; Pad Count: 2; ComponentLink1Description: Datasheet; ComponentLink2Description: Supplier link; Footprint Doc: 0402; LatestRevisionDate: 2016-06-02; Pin Count: 2; Publisher: Nordic Semiconductor; Published: 2015-11-11; Value: 1k; Component Class: Resistors; PartId: 100100172
footprint RESC1005X04L
pins: 1, 2

## R0402-1R0
designator R?, comment 1R0
Resistor, ±1%, 0.063W; Part Number: R0402-1R0; Part number IPS: 00000004795; Note: Chip Res 1%; Artikkelnr Noca: 27049001; Pad Count: 2; ComponentLink1Description: Datasheet; ComponentLink2Description: Supplier link; Footprint Doc: 0402; LatestRevisionDate: 2012-06-22; Pin Count: 2; Publisher: Nordic Semiconductor; Published: 2012-06-22; Value: 1R0; Component Class: Resistors; PartId: 100100112
footprint RESC1005X04L
pins: 1, 2

## R0402-11R
designator R?, comment 11R
Resistor, ±1%, 0.063W; Part Number: R0402-11R; Part number IPS: 00000007807; Note: Chip Res 1%; Artikkelnr Noca: N.A.; Pad Count: 2; ComponentLink1Description: Datasheet; ComponentLink2Description: Supplier link; Footprint Doc: 0402; LatestRevisionDate: 2016-11-09; Pin Count: 2; Publisher: Nordic Semiconductor; Published: 2016-11-09; Value: 11R; Supplier 1: Farnell; Supplier Part Number 1: 214-0577; Component Class: Resistors; PartId: 100100127
footprint RESC1005X04L
pins: 1, 2

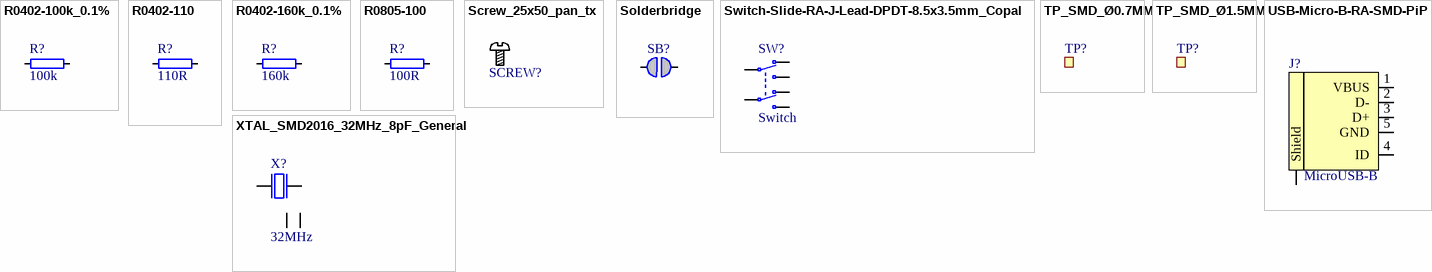
[diagram p2: symbols R0402-100k_0.1% to XTAL_SMD2016_32MHz_8pF_General]

## R0402-100k_0.1%
designator R?, comment 100k
Resistor, ±0.1%, 0.063W; Part Number: R0402-100k_0.1%; Part number IPS: 00000004792; Note: Chip Res 1%; Artikkelnr Noca: N.A.; Pad Count: 2; ComponentLink1Description: Datasheet; ComponentLink2Description: Supplier link; Footprint Doc: 0402; LatestRevisionDate: 2016-02-12; Pin Count: 2; Publisher: Nordic Semiconductor; Published: 2016-02-12; Value: 100k; Supplier 1: Digi-key; Supplier Part Number 1: P100KDCCT-ND; Component Class: Resistors; PartId: 100100240
footprint RESC1005X04L
pins: 1, 2

## R0402-110
designator R?, comment 110R
Resistor, ±1%, 0.063W; Part Number: R0402-110; Part number IPS: 00000004793; Note: Chip Res 1%; Artikkelnr Noca: N.A.; Pad Count: 2; ComponentLink1Description: Datasheet; ComponentLink2Description: Supplier link; Footprint Doc: 0402; LatestRevisionDate: 2017-08-15; Pin Count: 2; Publisher: Nordic Semiconductor; Published: 2017-08-15; Value: 110R; Supplier 1: Digi-Key; Supplier Part Number 1: 541-110LCT-ND; Component Class: Resistors; PartId: 100100150
footprint RESC1005X04L
pins: 1, 2

## R0402-160k_0.1%
designator R?, comment 160k
Resistor, ±0.1%, 0.063W; Part Number: R0402-160k_0.1%; Part number IPS: 00000004798; Note: Chip Res 0.1%; Artikkelnr Noca: N.A.; Pad Count: 2; ComponentLink1Description: Datasheet; ComponentLink2Description: Supplier link; Footprint Doc: 0402; LatestRevisionDate: 2016-03-30; Pin Count: 2; Publisher: Nordic Semiconductor; Published: 2016-03-30; Value: 160k; Supplier 1: Digi-key; Supplier Part Number 1: A119926CT-ND; Component Class: Resistors; PartId: 100100247
footprint RESC1005X04L
pins: 1, 2

## R0805-100
designator R?, comment 100R
Resistor, ±1%, 0.125W; Part Number: R0805-100; Part number IPS: 00000004791; Note: Chip Res 1%; Artikkelnr Noca: 27089049; Pad Count: 2; ComponentLink1Description: Datasheet; ComponentLink2Description: Supplier link; Footprint Doc: 0805; LatestRevisionDate: 2013-06-04; Pin Count: 2; Publisher: Nordic Semiconductor; Published: 2009-05-08; Value: 100R; Component Class: Resistors; PartId: 100100394
footprint RESC2012X11L
pins: 1, 2